# Altium footprint library QFN50P500X500X80-29N.PcbLib: 1 footprints
Each footprint in its own frame and in the unit in brackets; x right, y up, seen from the top. Pads: shape width x height; smd on the part's side, far side on the other; paste and mask are expansions set on the pad; w line width, h text height; cw(c..) or ccw(c..) is an arc to the next point about the centre after c.
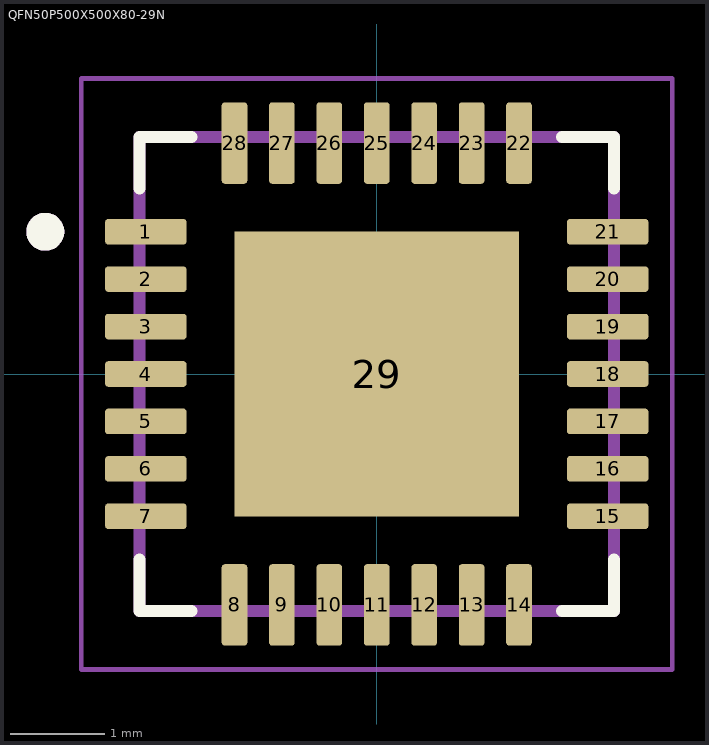
[diagram p0: the footprint, top view; thin cyan lines are the x and y axes]

## QFN50P500X500X80-29N [mm]
pads (29):
  rrect25% 0.86x0.27 smd: 1(-2.435,1.5) 2(-2.435,1) 3(-2.435,0.5) 4(-2.435,0) 5(-2.435,-0.5) 6(-2.435,-1) 7(-2.435,-1.5) 15(2.435,-1.5) 16(2.435,-1) 17(2.435,-0.5) 18(2.435,0) 19(2.435,0.5) 20(2.435,1) 21(2.435,1.5)
  rrect25% 0.27x0.86 smd: 8(-1.5,-2.435) 9(-1,-2.435) 10(-0.5,-2.435) 11(0,-2.435) 12(0.5,-2.435) 13(1,-2.435) 14(1.5,-2.435) 22(1.5,2.435) 23(1,2.435) 24(0.5,2.435) 25(0,2.435) 26(-0.5,2.435) 27(-1,2.435) 28(-1.5,2.435)
  rect 3x3 smd paste-0.55: 29(0,0)
Top Overlay:
  circle w0.2: c-3.495,1.5 r0.1
  lines w0.127: -2.5,-1.955 -2.5,-2.5 -1.955,-2.5 ; -2.5,1.955 -2.5,2.5 -1.955,2.5 ; 1.955,-2.5 2.5,-2.5 2.5,-1.955 ; 1.955,2.5 2.5,2.5 2.5,1.955
Assembly Top:
  circle w0.2: c-3.495,1.5 r0.1
  lines w0.127: -2.5,-2.5 2.5,-2.5 2.5,2.5 -2.5,2.5 -2.5,-2.5
Top Courtyard:
  lines w0.05: -3.115,-3.115 3.115,-3.115 3.115,3.115 -3.115,3.115 -3.115,-3.115
3D body "step_temp.STEP": height 0.8, standoff 0, extent -2.5,-2.5 2.5,2.5